# Altium schematic symbol library DRS4_V09.SchLib: 1 symbol
Pins are listed as number, name and electrical type; pins without a type are passive.

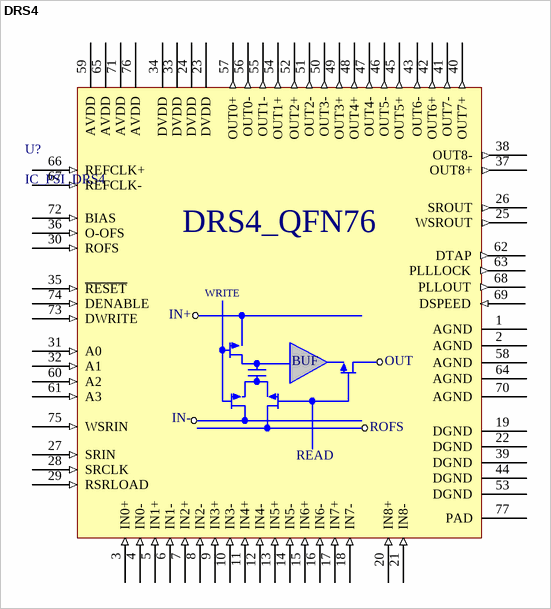
[diagram p0: symbol DRS4]

## DRS4
designator U?, comment IC_PSI_DRS4
DRS4 QFN76 DAQ Chip; Series: DRS4
footprint DRS4 (QFN, 76-Leads, Body 9.00x9.00mm, Pitch 0.40mm, Thermal Pad 5.50x5.50mm, IPC Medium Density)
pins: 1 AGND, 2 AGND, 3 IN0+ (in), 4 IN0- (in), 5 IN1+ (in), 6 IN1- (in), 7 IN2+ (in), 8 IN2- (in), 9 IN3+ (in), 10 IN3- (in), 11 IN4+ (in), 12 IN4- (in), 13 IN5+ (in), 14 IN5- (in), 15 IN6+ (in), 16 IN6- (in), 17 IN7+ (in), 18 IN7- (in), 19 DGND, 20 IN8+ (in), 21 IN8- (in), 22 DGND, 23 DVDD (power), 24 DVDD (power), 25 WSROUT (out), 26 SROUT (out), 27 SRIN (in), 28 SRCLK (in), 29 RSRLOAD (in), 30 ROFS (in), 31 A0 (in), 32 A1 (in), 33 DVDD (power), 34 DVDD (power), 35 ~{RESET} (in), 36 O-OFS (in), 37 OUT8+ (out), 38 OUT8- (out), 39 DGND, 40 OUT7+ (out), 41 OUT7- (out), 42 OUT6+ (out), 43 OUT6- (out), 44 DGND, 45 OUT5+ (out), 46 OUT5- (out), 47 OUT4- (out), 48 OUT4+ (out), 49 OUT3+ (out), 50 OUT3- (out), 51 OUT2- (out), 52 OUT2+ (out), 53 DGND, 54 OUT1+ (out), 55 OUT1- (out), 56 OUT0- (out), 57 OUT0+ (out), 58 AGND, 59 AVDD (power), 60 A2 (in), 61 A3 (in), 62 DTAP (out), 63 PLLLOCK (out), 64 AGND, 65 AVDD (power), 66 REFCLK+ (in), 67 REFCLK- (in), 68 PLLOUT (out), 69 DSPEED (in), 70 AGND, 71 AVDD (power), 72 BIAS (in), 73 DWRITE (in), 74 DENABLE (in), 75 WSRIN (in), 76 AVDD (power), 77 PAD
text: DRS4_QFN76; WRITE; IN+; BUF; OUT; IN-; READ